# Altium schematic symbol library Keyboard.SchLib: 13 symbols
Pins are listed as number, name and electrical type; pins without a type are passive.

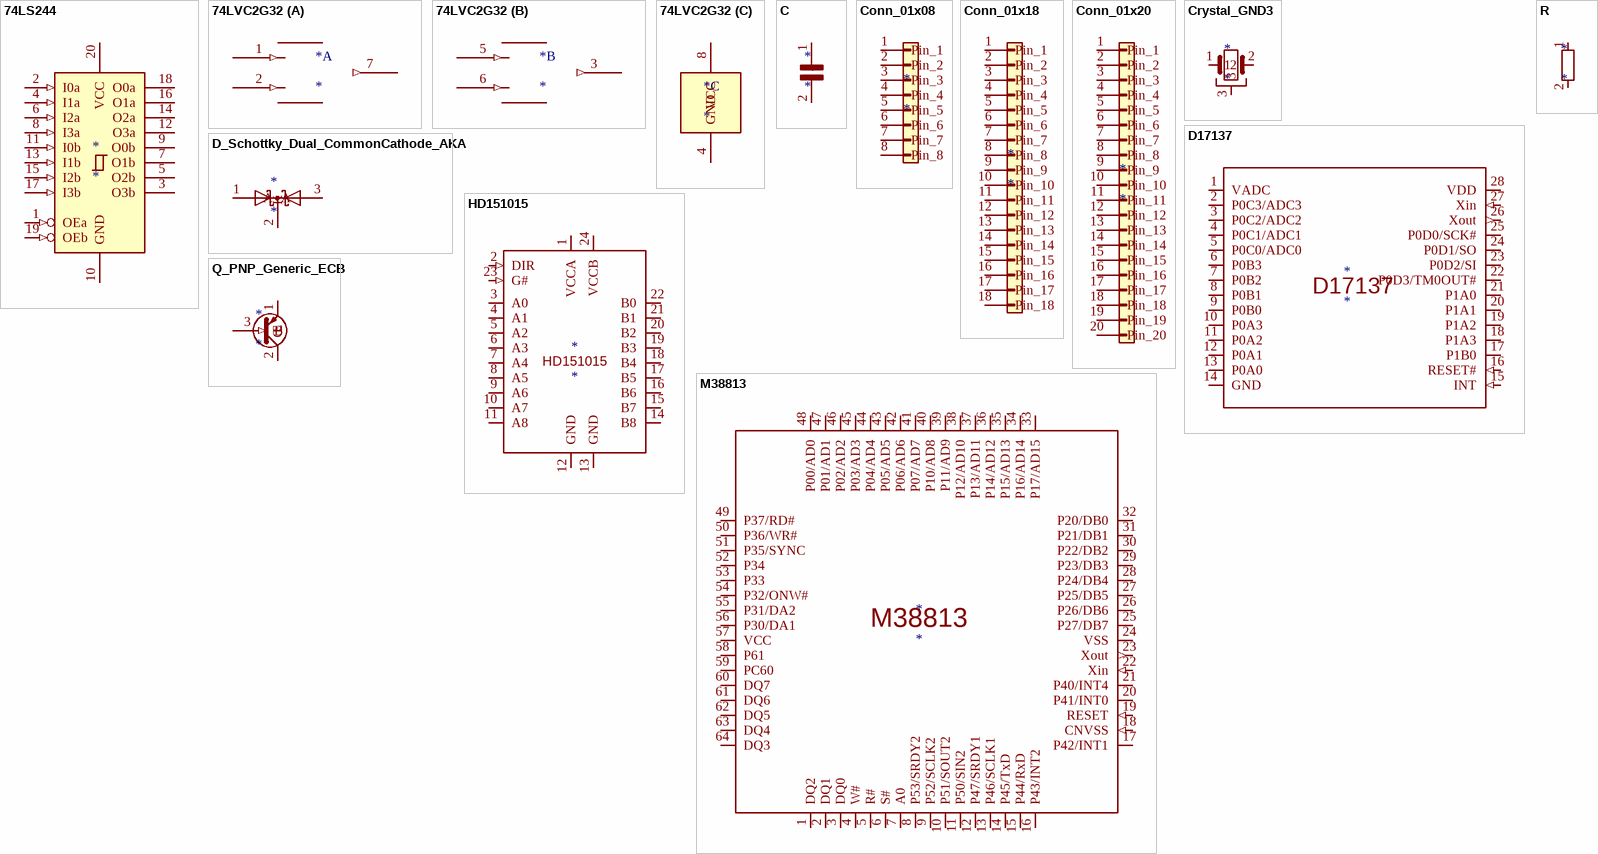
[diagram p0: symbols 74LS244 to R]

## 74LS244
designator *
pins: 1 OEa (in), 2 I0a (in), 3 O3b (hiz), 4 I1a (in), 5 O2b (hiz), 6 I2a (in), 7 O1b (hiz), 8 I3a (in), 9 O0b (hiz), 10 GND (power), 11 I0b (in), 12 O3a (hiz), 13 I1b (in), 14 O2a (hiz), 15 I2b (in), 16 O1a (hiz), 17 I3b (in), 18 O0a (hiz), 19 OEb (in), 20 VCC (power)

## 74LVC2G32
designator *
part A pins: 1 (in), 2 (in), 7 (out)
part B pins: 3 (out), 5 (in), 6 (in)
part C pins: 4 GND (power), 8 VCC (power)

## C
designator *
pins: 1 +, 2 -
1 alternate drawing of the same symbol

## Conn_01x08
designator *
pins: 1 Pin_1, 2 Pin_2, 3 Pin_3, 4 Pin_4, 5 Pin_5, 6 Pin_6, 7 Pin_7, 8 Pin_8

## Conn_01x18
designator *
pins: 1 Pin_1, 2 Pin_2, 3 Pin_3, 4 Pin_4, 5 Pin_5, 6 Pin_6, 7 Pin_7, 8 Pin_8, 9 Pin_9, 10 Pin_10, 11 Pin_11, 12 Pin_12, 13 Pin_13, 14 Pin_14, 15 Pin_15, 16 Pin_16, 17 Pin_17, 18 Pin_18

## Conn_01x20
designator *
pins: 1 Pin_1, 2 Pin_2, 3 Pin_3, 4 Pin_4, 5 Pin_5, 6 Pin_6, 7 Pin_7, 8 Pin_8, 9 Pin_9, 10 Pin_10, 11 Pin_11, 12 Pin_12, 13 Pin_13, 14 Pin_14, 15 Pin_15, 16 Pin_16, 17 Pin_17, 18 Pin_18, 19 Pin_19, 20 Pin_20

## Crystal_GND3
designator *
pins: 1, 2, 3

## D17137
designator *
pins: 1 VADC (power), 2 P0C3/ADC3 (io), 3 P0C2/ADC2 (io), 4 P0C1/ADC1 (io), 5 P0C0/ADC0 (io), 6 P0B3 (io), 7 P0B2 (io), 8 P0B1 (io), 9 P0B0 (io), 10 P0A3 (io), 11 P0A2 (io), 12 P0A1 (io), 13 P0A0 (io), 14 GND (power), 15 INT (in), 16 RESET# (in), 17 P1B0 (io), 18 P1A3 (io), 19 P1A2 (io), 20 P1A1 (io), 21 P1A0 (io), 22 P0D3/TM0OUT# (io), 23 P0D2/SI (io), 24 P0D1/SO (io), 25 P0D0/SCK# (io), 26 Xout (out), 27 Xin (in), 28 VDD (power)

## D_Schottky_Dual_CommonCathode_AKA
designator *
pins: 1 A, 2 K, 3 A

## HD151015
designator *
pins: 1 VCCA (power), 2 DIR (in), 3 A0 (io), 4 A1 (io), 5 A2 (io), 6 A3 (io), 7 A4 (io), 8 A5 (io), 9 A6 (io), 10 A7 (io), 11 A8 (io), 12 GND (power), 13 GND (power), 14 B8 (io), 15 B7 (io), 16 B6 (io), 17 B5 (io), 18 B4 (io), 19 B3 (io), 20 B2 (io), 21 B1 (io), 22 B0 (io), 23 G# (in), 24 VCCB (power)

## M38813
designator *
pins: 1 DQ2 (io), 2 DQ1 (io), 3 DQ0 (io), 4 W# (io), 5 R# (io), 6 S# (io), 7 A0 (io), 8 P53/SRDY2 (io), 9 P52/SCLK2 (io), 10 P51/SOUT2 (io), 11 P50/SIN2 (io), 12 P47/SRDY1 (io), 13 P46/SCLK1 (io), 14 P45/TxD (io), 15 P44/RxD (io), 16 P43/INT2 (io), 17 P42/INT1 (io), 18 CNVSS (in), 19 RESET (in), 20 P41/INT0 (io), 21 P40/INT4 (io), 22 Xin (in), 23 Xout (out), 24 VSS (power), 25 P27/DB7 (io), 26 P26/DB6 (io), 27 P25/DB5 (io), 28 P24/DB4 (io), 29 P23/DB3 (io), 30 P22/DB2 (io), 31 P21/DB1 (io), 32 P20/DB0 (io), 33 P17/AD15 (io), 34 P16/AD14 (io), 35 P15/AD13 (io), 36 P14/AD12 (io), 37 P13/AD11 (io), 38 P12/AD10 (io), 39 P11/AD9 (io), 40 P10/AD8 (io), 41 P07/AD7 (io), 42 P06/AD6 (io), 43 P05/AD5 (io), 44 P04/AD4 (io), 45 P03/AD3 (io), 46 P02/AD2 (io), 47 P01/AD1 (io), 48 P00/AD0 (io), 49 P37/RD# (io), 50 P36/WR# (io), 51 P35/SYNC (io), 52 P34 (io), 53 P33 (io), 54 P32/ONW# (io), 55 P31/DA2 (io), 56 P30/DA1 (io), 57 VCC (power), 58 P61 (io), 59 PC60 (io), 60 DQ7 (io), 61 DQ6 (io), 62 DQ5 (io), 63 DQ4 (io), 64 DQ3 (io)

## Q_PNP_Generic_ECB
designator *
pins: 1 E, 2 C, 3 B (in)

## R
designator *
pins: 1, 2